# EAGLE library part CN3791 (library consonance)
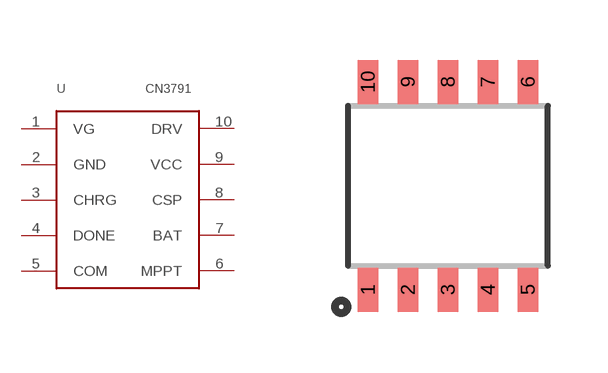
[diagram p3: symbol with the pads of SSOP10; footprint SSOP10]

Designator prefix U

## CN3791  [SSOP10]
1  VG
2  GND
3  CHRG
4  DONE
5  COM
6  MPPT
7  BAT
8  CSP
9  VCC
10  DRV

## Footprint SSOP10 (pad centres in mm)
smd 0.51 x 1.1: 1 -2,-2.6; 2 -1,-2.6; 3 0,-2.6; 4 1,-2.6; 5 2,-2.6; 6 2,2.6; 7 1,2.6; 8 0,2.6; 9 -1,2.6; 10 -2,2.6